# EAGLE library part ARE10A4H (library ruark2)
RELAY RF SPDT 500MA 4.5V
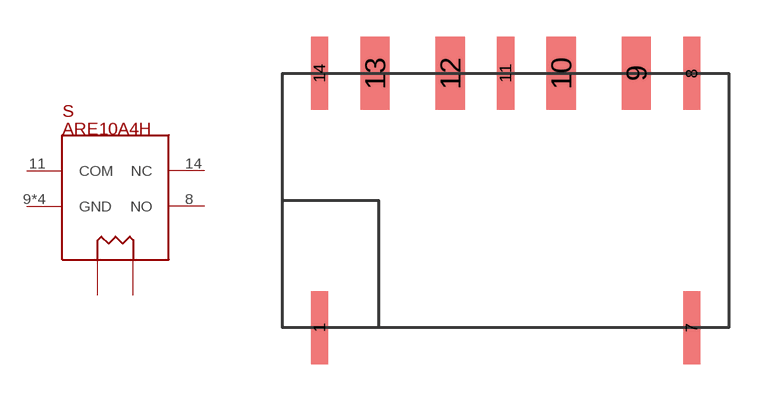
[diagram p18: symbol with the pads of RFRELAY; footprint RFRELAY]

Designator prefix S

## ARE10A4H (PARTNO: 255-5312-1-ND)  [RFRELAY]
1  P$1
7  P$2
8  NO
9  GND
10  GND
11  COM
12  GND
13  GND
14  NC

## Footprint RFRELAY (pad centres in mm)
smd 0.7 x 3: 1 -7.62,-5.205; 7 7.62,-5.205; 8 7.62,5.205; 11 0,5.205; 14 -7.62,5.205
smd 1.2 x 3: 9 5.35,5.205; 10 2.27,5.205; 12 -2.27,5.205; 13 -5.35,5.205